# EAGLE library part ESP32_FEATHER (library freskin)
Board HUZZAH Feather based on ESP32. Producto developed by Adafruit Further details: https://learn.adafruit.com/adafruit-huzzah32-esp32-feather/overview
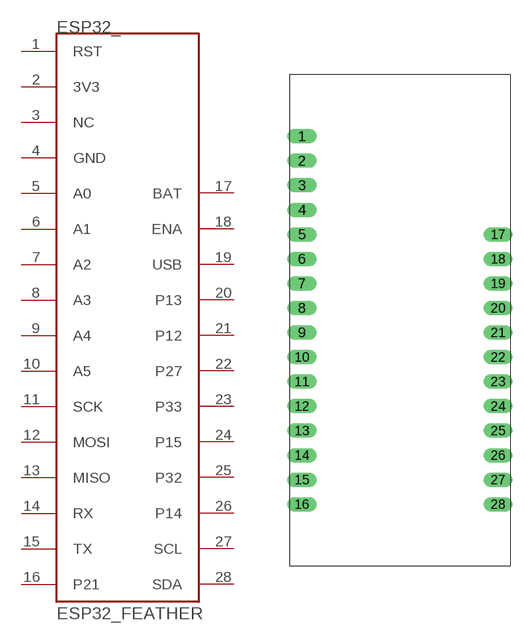
[diagram p0: symbol with the pads of ESP32_HUZZAH; footprint ESP32_HUZZAH]

Designator prefix ESP32_

## ESP32_FEATHER  [ESP32_HUZZAH]
1  RST
2  3V3
3  NC
4  GND
5  A0
6  A1
7  A2
8  A3
9  A4
10  A5
11  SCK
12  MOSI
13  MISO
14  RX
15  TX
16  P21
17  BAT
18  ENA
19  USB
20  P13
21  P12
22  P27
23  P33
24  P15
25  P32
26  P14
27  SCL
28  SDA

## Footprint ESP32_HUZZAH (pad centres in mm)
Plated Through Hole -16 Pin Locking Footprint w/ Long Pads Holes are offset 0.005" to hold pins in place while soldering. Specifications: Pin count:16 Pin pitch:0.1" Example device(s): CONN_16
drill 1 pad 1.422 long: 1 -10.16,21.59; 2 -10.16,19.05; 3 -10.16,16.51; 4 -10.16,13.97; 5 -10.16,11.43; 6 -10.16,8.89; 7 -10.16,6.35; 8 -10.16,3.81; 9 -10.16,1.27; 10 -10.16,-1.27; 11 -10.16,-3.81; 12 -10.16,-6.35; 13 -10.16,-8.89; 14 -10.16,-11.43; 15 -10.16,-13.97; 16 -10.16,-16.51; 17 10.16,11.43; 18 10.16,8.89; 19 10.16,6.35; 20 10.16,3.81; 21 10.16,1.27; 22 10.16,-1.27; 23 10.16,-3.81; 24 10.16,-6.35; 25 10.16,-8.89; 26 10.16,-11.43; 27 10.16,-13.97; 28 10.16,-16.51